# Altium schematic symbol library kmilo17pet-NSC_MiscPower.SchLib: 1552 symbols (part 38 of 43)
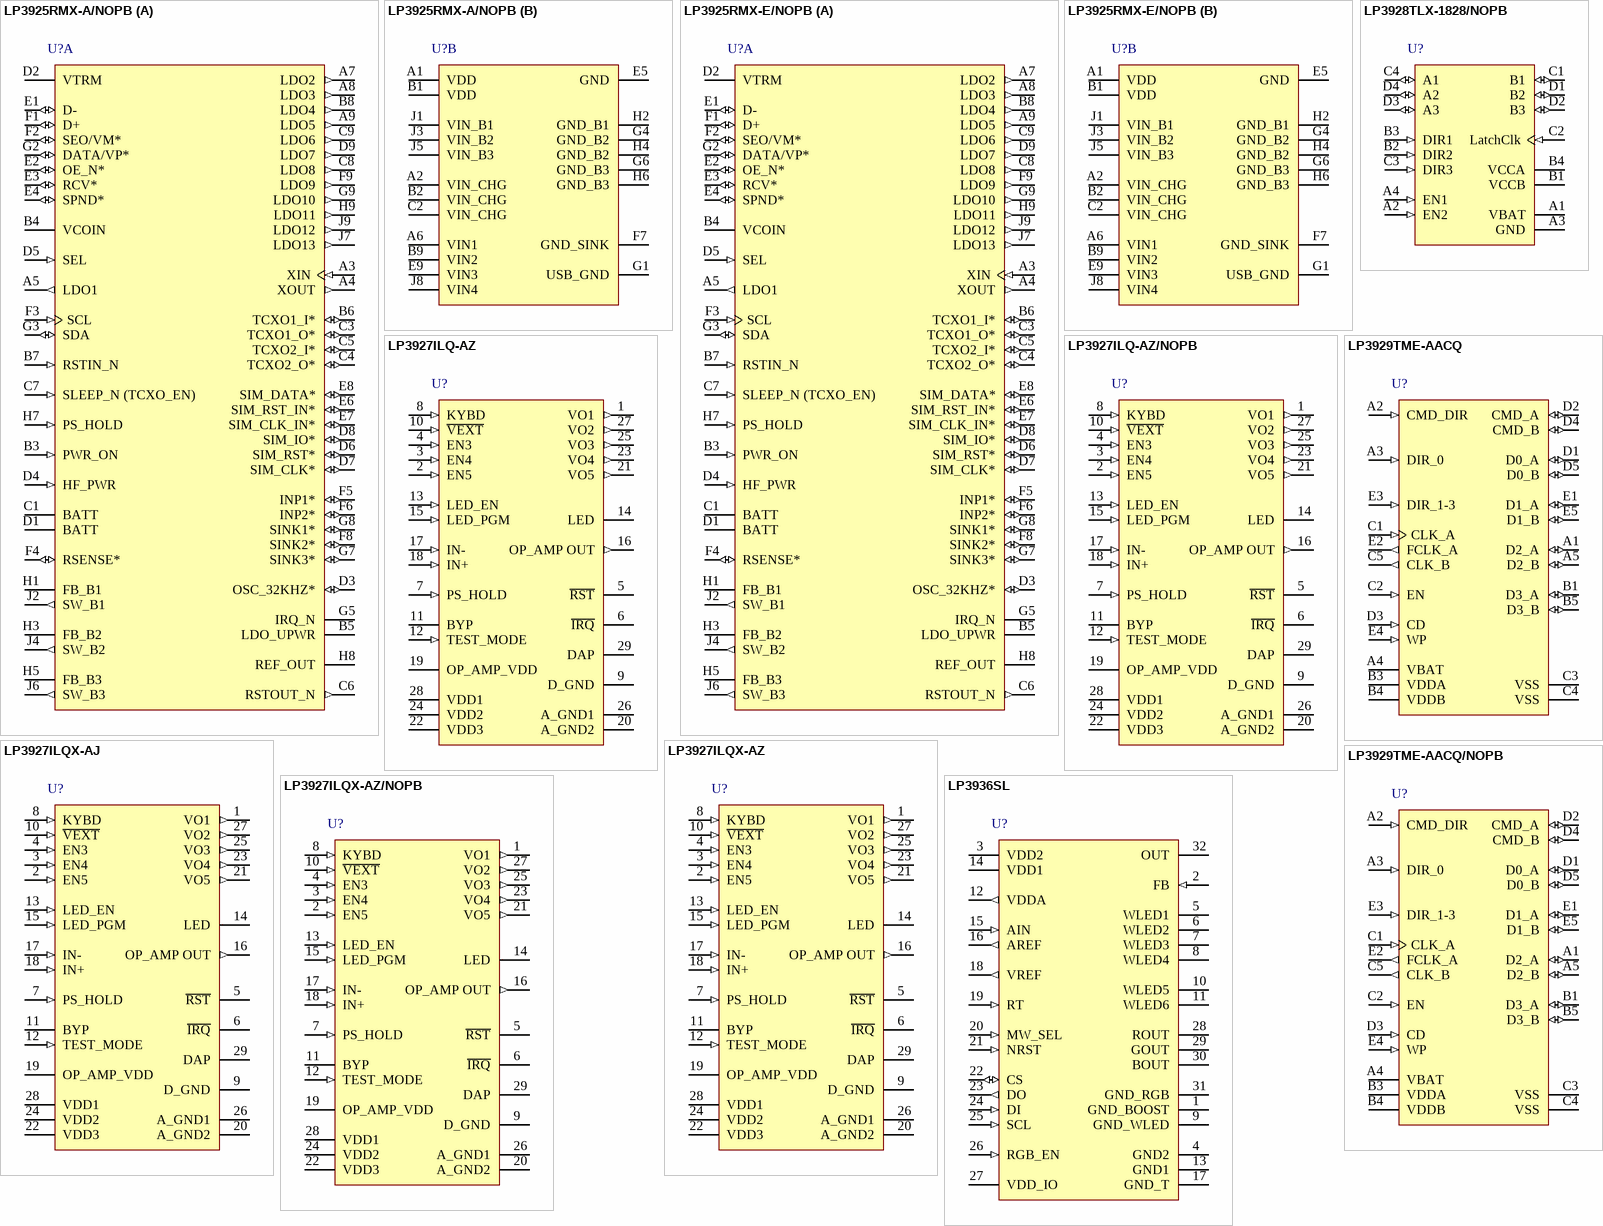
[diagram p94: symbols LP3925RMX-A/NOPB to LP3936SL]

## LP3927ILQ-AZ
designator U?
Cellular/PCS System Power Management IC, 28-pin LLP; PartNumber: LP3927ILQ-AZ; Manufacturer: National Semiconductor; PackageTopMarking: NS*UZXYTTE#*3927-AZ; PowerWise: N; CompType: MiscPower; High-Reliability: Y; DatasheetVersion: Dec-2005; PackageVersion: revB, Jul-2001; PackageReference: LQA28A; PackageDescription: LLP, Plastic, Quad, 5 x 5 x 0.75mm Body, 28 Lead, 0.5mm Pitch; RoHS: N; PinCount: 28; Code_JEDEC: MO-220-WHHD-1; ComponentLink1Description: Manufacturer URL; ComponentLink1URL: http://www.national.com/; ComponentLink2Description: LP3927 Datasheet; ComponentLink2URL: http://www.national.com/ds/LP/LP3927.pdf; ComponentLink3Description: LP3927 Web Page; ComponentLink3URL: http://www.national.com/pf/LP/LP3927.html; ComponentLink4Description: LQA28A Package Page; ComponentLink4URL: http://www.national.com/packaging/folders/lqa28a.html
footprint LQA28A (PQFN, 28-Leads, Body 5x5mm, Pitch 0.5mm, Thermal Pad 3.3x3.3mm, NSC Recommended)
pins: 1 VO1 (out), 2 EN5 (in), 3 EN4 (in), 4 EN3 (in), 5 ~{RST} (oc), 6 ~{IRQ} (oc), 7 PS_HOLD (in), 8 KYBD (in), 9 D_GND (power), 10 ~{VEXT} (in), 11 BYP, 12 TEST_MODE (in), 13 LED_EN (in), 14 LED (oc), 15 LED_PGM (in), 16 OP_AMP OUT (out), 17 IN- (in), 18 IN+ (in), 19 OP_AMP_VDD (power), 20 A_GND2 (power), 21 VO5 (out), 22 VDD3 (power), 23 VO4 (out), 24 VDD2 (power), 25 VO3 (out), 26 A_GND1 (power), 27 VO2 (out), 28 VDD1 (power), 29 DAP (power)

## LP3927ILQ-AZ/NOPB
designator U?
Cellular/PCS System Power Management IC, 28-pin LLP, Pb-Free; PartNumber: LP3927ILQ-AZ/NOPB; Manufacturer: National Semiconductor; PackageTopMarking: NS*UZXYTTE#*3927-AZ; PowerWise: N; CompType: MiscPower; High-Reliability: Y; DatasheetVersion: Dec-2005; PackageVersion: revB, Jul-2001; PackageReference: LQA28A; PackageDescription: LLP, Plastic, Quad, 5 x 5 x 0.75mm Body, 28 Lead, 0.5mm Pitch; RoHS: Y; PinCount: 28; Code_JEDEC: MO-220-WHHD-1; ComponentLink1Description: Manufacturer URL; ComponentLink1URL: http://www.national.com/; ComponentLink2Description: LP3927 Datasheet; ComponentLink2URL: http://www.national.com/ds/LP/LP3927.pdf; ComponentLink3Description: LP3927 Web Page; ComponentLink3URL: http://www.national.com/pf/LP/LP3927.html; ComponentLink4Description: LQA28A Package Page; ComponentLink4URL: http://www.national.com/packaging/folders/lqa28a.html
footprint LQA28A (PQFN, 28-Leads, Body 5x5mm, Pitch 0.5mm, Thermal Pad 3.3x3.3mm, NSC Recommended)
pins: 1 VO1 (out), 2 EN5 (in), 3 EN4 (in), 4 EN3 (in), 5 ~{RST} (oc), 6 ~{IRQ} (oc), 7 PS_HOLD (in), 8 KYBD (in), 9 D_GND (power), 10 ~{VEXT} (in), 11 BYP, 12 TEST_MODE (in), 13 LED_EN (in), 14 LED (oc), 15 LED_PGM (in), 16 OP_AMP OUT (out), 17 IN- (in), 18 IN+ (in), 19 OP_AMP_VDD (power), 20 A_GND2 (power), 21 VO5 (out), 22 VDD3 (power), 23 VO4 (out), 24 VDD2 (power), 25 VO3 (out), 26 A_GND1 (power), 27 VO2 (out), 28 VDD1 (power), 29 DAP (power)

## LP3927ILQX-AJ
designator U?
Cellular/PCS System Power Management IC, 28-pin LLP; PartNumber: LP3927ILQX-AJ; Manufacturer: National Semiconductor; PackageTopMarking: NS*UZXYTTE#*3927-AJ; PowerWise: N; CompType: MiscPower; High-Reliability: Y; DatasheetVersion: Dec-2005; PackageVersion: revB, Jul-2001; PackageReference: LQA28A; PackageDescription: LLP, Plastic, Quad, 5 x 5 x 0.75mm Body, 28 Lead, 0.5mm Pitch; RoHS: N; PinCount: 28; Code_JEDEC: MO-220-WHHD-1; ComponentLink1Description: Manufacturer URL; ComponentLink1URL: http://www.national.com/; ComponentLink2Description: LP3927 Datasheet; ComponentLink2URL: http://www.national.com/ds/LP/LP3927.pdf; ComponentLink3Description: LP3927 Web Page; ComponentLink3URL: http://www.national.com/pf/LP/LP3927.html; ComponentLink4Description: LQA28A Package Page; ComponentLink4URL: http://www.national.com/packaging/folders/lqa28a.html
footprint LQA28A (PQFN, 28-Leads, Body 5x5mm, Pitch 0.5mm, Thermal Pad 3.3x3.3mm, NSC Recommended)
pins: 1 VO1 (out), 2 EN5 (in), 3 EN4 (in), 4 EN3 (in), 5 ~{RST} (oc), 6 ~{IRQ} (oc), 7 PS_HOLD (in), 8 KYBD (in), 9 D_GND (power), 10 ~{VEXT} (in), 11 BYP, 12 TEST_MODE (in), 13 LED_EN (in), 14 LED (oc), 15 LED_PGM (in), 16 OP_AMP OUT (out), 17 IN- (in), 18 IN+ (in), 19 OP_AMP_VDD (power), 20 A_GND2 (power), 21 VO5 (out), 22 VDD3 (power), 23 VO4 (out), 24 VDD2 (power), 25 VO3 (out), 26 A_GND1 (power), 27 VO2 (out), 28 VDD1 (power), 29 DAP (power)

## LP3927ILQX-AZ
designator U?
Cellular/PCS System Power Management IC, 28-pin LLP; PartNumber: LP3927ILQX-AZ; Manufacturer: National Semiconductor; PackageTopMarking: NS*UZXYTTE#*3927-AZ; PowerWise: N; CompType: MiscPower; High-Reliability: Y; DatasheetVersion: Dec-2005; PackageVersion: revB, Jul-2001; PackageReference: LQA28A; PackageDescription: LLP, Plastic, Quad, 5 x 5 x 0.75mm Body, 28 Lead, 0.5mm Pitch; RoHS: N; PinCount: 28; Code_JEDEC: MO-220-WHHD-1; ComponentLink1Description: Manufacturer URL; ComponentLink1URL: http://www.national.com/; ComponentLink2Description: LP3927 Datasheet; ComponentLink2URL: http://www.national.com/ds/LP/LP3927.pdf; ComponentLink3Description: LP3927 Web Page; ComponentLink3URL: http://www.national.com/pf/LP/LP3927.html; ComponentLink4Description: LQA28A Package Page; ComponentLink4URL: http://www.national.com/packaging/folders/lqa28a.html
footprint LQA28A (PQFN, 28-Leads, Body 5x5mm, Pitch 0.5mm, Thermal Pad 3.3x3.3mm, NSC Recommended)
pins: 1 VO1 (out), 2 EN5 (in), 3 EN4 (in), 4 EN3 (in), 5 ~{RST} (oc), 6 ~{IRQ} (oc), 7 PS_HOLD (in), 8 KYBD (in), 9 D_GND (power), 10 ~{VEXT} (in), 11 BYP, 12 TEST_MODE (in), 13 LED_EN (in), 14 LED (oc), 15 LED_PGM (in), 16 OP_AMP OUT (out), 17 IN- (in), 18 IN+ (in), 19 OP_AMP_VDD (power), 20 A_GND2 (power), 21 VO5 (out), 22 VDD3 (power), 23 VO4 (out), 24 VDD2 (power), 25 VO3 (out), 26 A_GND1 (power), 27 VO2 (out), 28 VDD1 (power), 29 DAP (power)

## LP3927ILQX-AZ/NOPB
designator U?
Cellular/PCS System Power Management IC, 28-pin LLP, Pb-Free; PartNumber: LP3927ILQX-AZ/NOPB; Manufacturer: National Semiconductor; PackageTopMarking: NS*UZXYTTE#*3927-AZ; PowerWise: N; CompType: MiscPower; High-Reliability: Y; DatasheetVersion: Dec-2005; PackageVersion: revB, Jul-2001; PackageReference: LQA28A; PackageDescription: LLP, Plastic, Quad, 5 x 5 x 0.75mm Body, 28 Lead, 0.5mm Pitch; RoHS: Y; PinCount: 28; Code_JEDEC: MO-220-WHHD-1; ComponentLink1Description: Manufacturer URL; ComponentLink1URL: http://www.national.com/; ComponentLink2Description: LP3927 Datasheet; ComponentLink2URL: http://www.national.com/ds/LP/LP3927.pdf; ComponentLink3Description: LP3927 Web Page; ComponentLink3URL: http://www.national.com/pf/LP/LP3927.html; ComponentLink4Description: LQA28A Package Page; ComponentLink4URL: http://www.national.com/packaging/folders/lqa28a.html
footprint LQA28A (PQFN, 28-Leads, Body 5x5mm, Pitch 0.5mm, Thermal Pad 3.3x3.3mm, NSC Recommended)
pins: 1 VO1 (out), 2 EN5 (in), 3 EN4 (in), 4 EN3 (in), 5 ~{RST} (oc), 6 ~{IRQ} (oc), 7 PS_HOLD (in), 8 KYBD (in), 9 D_GND (power), 10 ~{VEXT} (in), 11 BYP, 12 TEST_MODE (in), 13 LED_EN (in), 14 LED (oc), 15 LED_PGM (in), 16 OP_AMP OUT (out), 17 IN- (in), 18 IN+ (in), 19 OP_AMP_VDD (power), 20 A_GND2 (power), 21 VO5 (out), 22 VDD3 (power), 23 VO4 (out), 24 VDD2 (power), 25 VO3 (out), 26 A_GND1 (power), 27 VO2 (out), 28 VDD1 (power), 29 DAP (power)

## LP3928TLX-1828/NOPB
designator U?
High Speed Bi-Directional Level Shifter and Ultra Low-Dropout CMOS Voltage Regulator, 16-pin Micro SMD, Pb-Free; PartNumber: LP3928TLX-1828/NOPB; Manufacturer: National Semiconductor; PackageTopMarking: XYTT*I L8B; PowerWise: N; CompType: MiscPower; High-Reliability: Y; DatasheetVersion: Oct-2002; PackageVersion: revC, Jan-2004; PackageReference: TLA16AAA; PackageDescription: Thin Micro SMD, 36-Bump (Large), 0.5 mm Pitch; RoHS: Y; PinCount: 16; Code_JEDEC: MO-211-DF; ComponentLink1Description: Manufacturer URL; ComponentLink1URL: http://www.national.com/; ComponentLink2Description: LP3928 Datasheet; ComponentLink2URL: http://www.national.com/ds/LP/LP3928.pdf; ComponentLink3Description: LP3928 Web Page; ComponentLink3URL: http://www.national.com/pf/LP/LP3928.html; ComponentLink4Description: TLA16AAA Package Page; ComponentLink4URL: http://www.national.com/packaging/folders/tla16aaa.html
footprint TLA16AAA (Micro SMD, 16-Leads, Body 2.0x2.0mm, Pitch 0.5mm, NSC Recommended)
pins: A1 VBAT (power), A2 EN2 (in), A3 GND (power), A4 EN1 (in), B1 VCCB (power), B2 DIR2 (in), B3 DIR1 (in), B4 VCCA (power), C1 B1 (io), C2 LatchClk (in), C3 DIR3 (in), C4 A1 (io), D1 B2 (io), D2 B3 (io), D3 A3 (io), D4 A2 (io)

## LP3929TME-AACQ
designator U?
High Speed Bi-Directional Level Shifter and Ultra Low-Dropout CMOS Voltage Regulator and Line Protection, 24-pin Micro SMD; PartNumber: LP3929TME-AACQ; Manufacturer: National Semiconductor; PackageTopMarking: XYTT*I D57B; PowerWise: N; CompType: MiscPower; High-Reliability: Y; DatasheetVersion: Dec-2007; PackageVersion: revA, 2007; PackageReference: TME24AAA; PackageDescription: Thin Micro SMD, Depopulated, 24 Bump, 0.4mm Pitch; RoHS: Y; PinCount: 24; ComponentLink1Description: Manufacturer URL; ComponentLink1URL: http://www.national.com/; ComponentLink2Description: LP3929 Datasheet; ComponentLink2URL: http://www.national.com/ds/LP/LP3929.pdf; ComponentLink3Description: LP3929 Web Page; ComponentLink3URL: http://www.national.com/pf/LP/LP3929.html; ComponentLink4Description: TME24AAA Package Page; ComponentLink4URL: http://www.national.com/packaging/folders/tme24aaa.html
footprint TME24AAA (Micro SMD, 24-Leads, Body 2.02x2.02mm, Pitch 0.4mm, NSC Recommended)
pins: A1 D2_A (io), A2 CMD_DIR (in), A3 DIR_0 (in), A4 VBAT (power), A5 D2_B (io), B1 D3_A (io), B3 VDDA (power), B4 VDDB (power), B5 D3_B (io), C1 CLK_A (in), C2 EN (in), C3 VSS (power), C4 VSS (power), C5 CLK_B (out), D1 D0_A (io), D2 CMD_A (io), D3 CD (in), D4 CMD_B (io), D5 D0_B (io), E1 D1_A (io), E2 FCLK_A (out), E3 DIR_1-3 (in), E4 WP (in), E5 D1_B (io)

## LP3929TME-AACQ/NOPB
designator U?
High Speed Bi-Directional Level Shifter and Ultra Low-Dropout CMOS Voltage Regulator and Line Protection, 24-pin Micro SMD, Pb-Free; PartNumber: LP3929TME-AACQ/NOPB; Manufacturer: National Semiconductor; PackageTopMarking: XYTT*I D57B; PowerWise: N; CompType: MiscPower; High-Reliability: Y; DatasheetVersion: Dec-2007; PackageVersion: revA, 2007; PackageReference: TME24AAA; PackageDescription: Thin Micro SMD, Depopulated, 24 Bump, 0.4mm Pitch; RoHS: Y; PinCount: 24; ComponentLink1Description: Manufacturer URL; ComponentLink1URL: http://www.national.com/; ComponentLink2Description: LP3929 Datasheet; ComponentLink2URL: http://www.national.com/ds/LP/LP3929.pdf; ComponentLink3Description: LP3929 Web Page; ComponentLink3URL: http://www.national.com/pf/LP/LP3929.html; ComponentLink4Description: TME24AAA Package Page; ComponentLink4URL: http://www.national.com/packaging/folders/tme24aaa.html
footprint TME24AAA (Micro SMD, 24-Leads, Body 2.02x2.02mm, Pitch 0.4mm, NSC Recommended)
pins: A1 D2_A (io), A2 CMD_DIR (in), A3 DIR_0 (in), A4 VBAT (power), A5 D2_B (io), B1 D3_A (io), B3 VDDA (power), B4 VDDB (power), B5 D3_B (io), C1 CLK_A (in), C2 EN (in), C3 VSS (power), C4 VSS (power), C5 CLK_B (out), D1 D0_A (io), D2 CMD_A (io), D3 CD (in), D4 CMD_B (io), D5 D0_B (io), E1 D1_A (io), E2 FCLK_A (out), E3 DIR_1-3 (in), E4 WP (in), E5 D1_B (io)

## LP3936SL
designator U?
Lighting Management System for Six White LEDs and One RGB or FLASH LED, 32-pin Laminate TCSP; PartNumber: LP3936SL; Manufacturer: National Semiconductor; PackageTopMarking: NSUZXYTTE#*LP3936SL; PowerWise: Y; CompType: MiscPower; DatasheetVersion: Jun-2005; PackageVersion: revA, Aug-2001; PackageReference: SLD32A; PackageDescription: Thin CSP, Plastic, Laminated, 4.5 x 5.5 x 0.8mm Body, 32 Lead, 0.5mm Pitch; RoHS: N; PinCount: 32; High-Reliability: Y; Code_JEDEC: MO-208-GEEA; ComponentLink1Description: Manufacturer URL; ComponentLink1URL: http://www.national.com/; ComponentLink2Description: LP3936 Datasheet; ComponentLink2URL: http://www.national.com/ds/LP/LP3936.pdf; ComponentLink3Description: LP3936 Web Page; ComponentLink3URL: http://www.national.com/pf/LP/LP3936.html; ComponentLink4Description: SLD32A Package Page; ComponentLink4URL: http://www.national.com/packaging/folders/sld32a.html
footprint SLD32A (PQFN, 32-Leads (9x7 pads), Body 4.5x5.5mm, Pitch 0.5mm, NSC Recommended)
pins: 1 GND_BOOST (power), 2 FB (in), 3 VDD2 (power), 4 GND2 (power), 5 WLED1 (oc), 6 WLED2 (oc), 7 WLED3 (oc), 8 WLED4 (oc), 9 GND_WLED (power), 10 WLED5 (oc), 11 WLED6 (oc), 12 VDDA (out), 13 GND1 (power), 14 VDD1 (power), 15 AIN (in), 16 AREF (out), 17 GND_T (power), 18 VREF (out), 19 RT (in), 20 MW_SEL (in), 21 NRST (in), 22 CS (io), 23 DO (out), 24 DI (in), 25 SCL (in), 26 RGB_EN (in), 27 VDD_IO (power), 28 ROUT (oc), 29 GOUT (oc), 30 BOUT (oc), 31 GND_RGB (power), 32 OUT (oc)

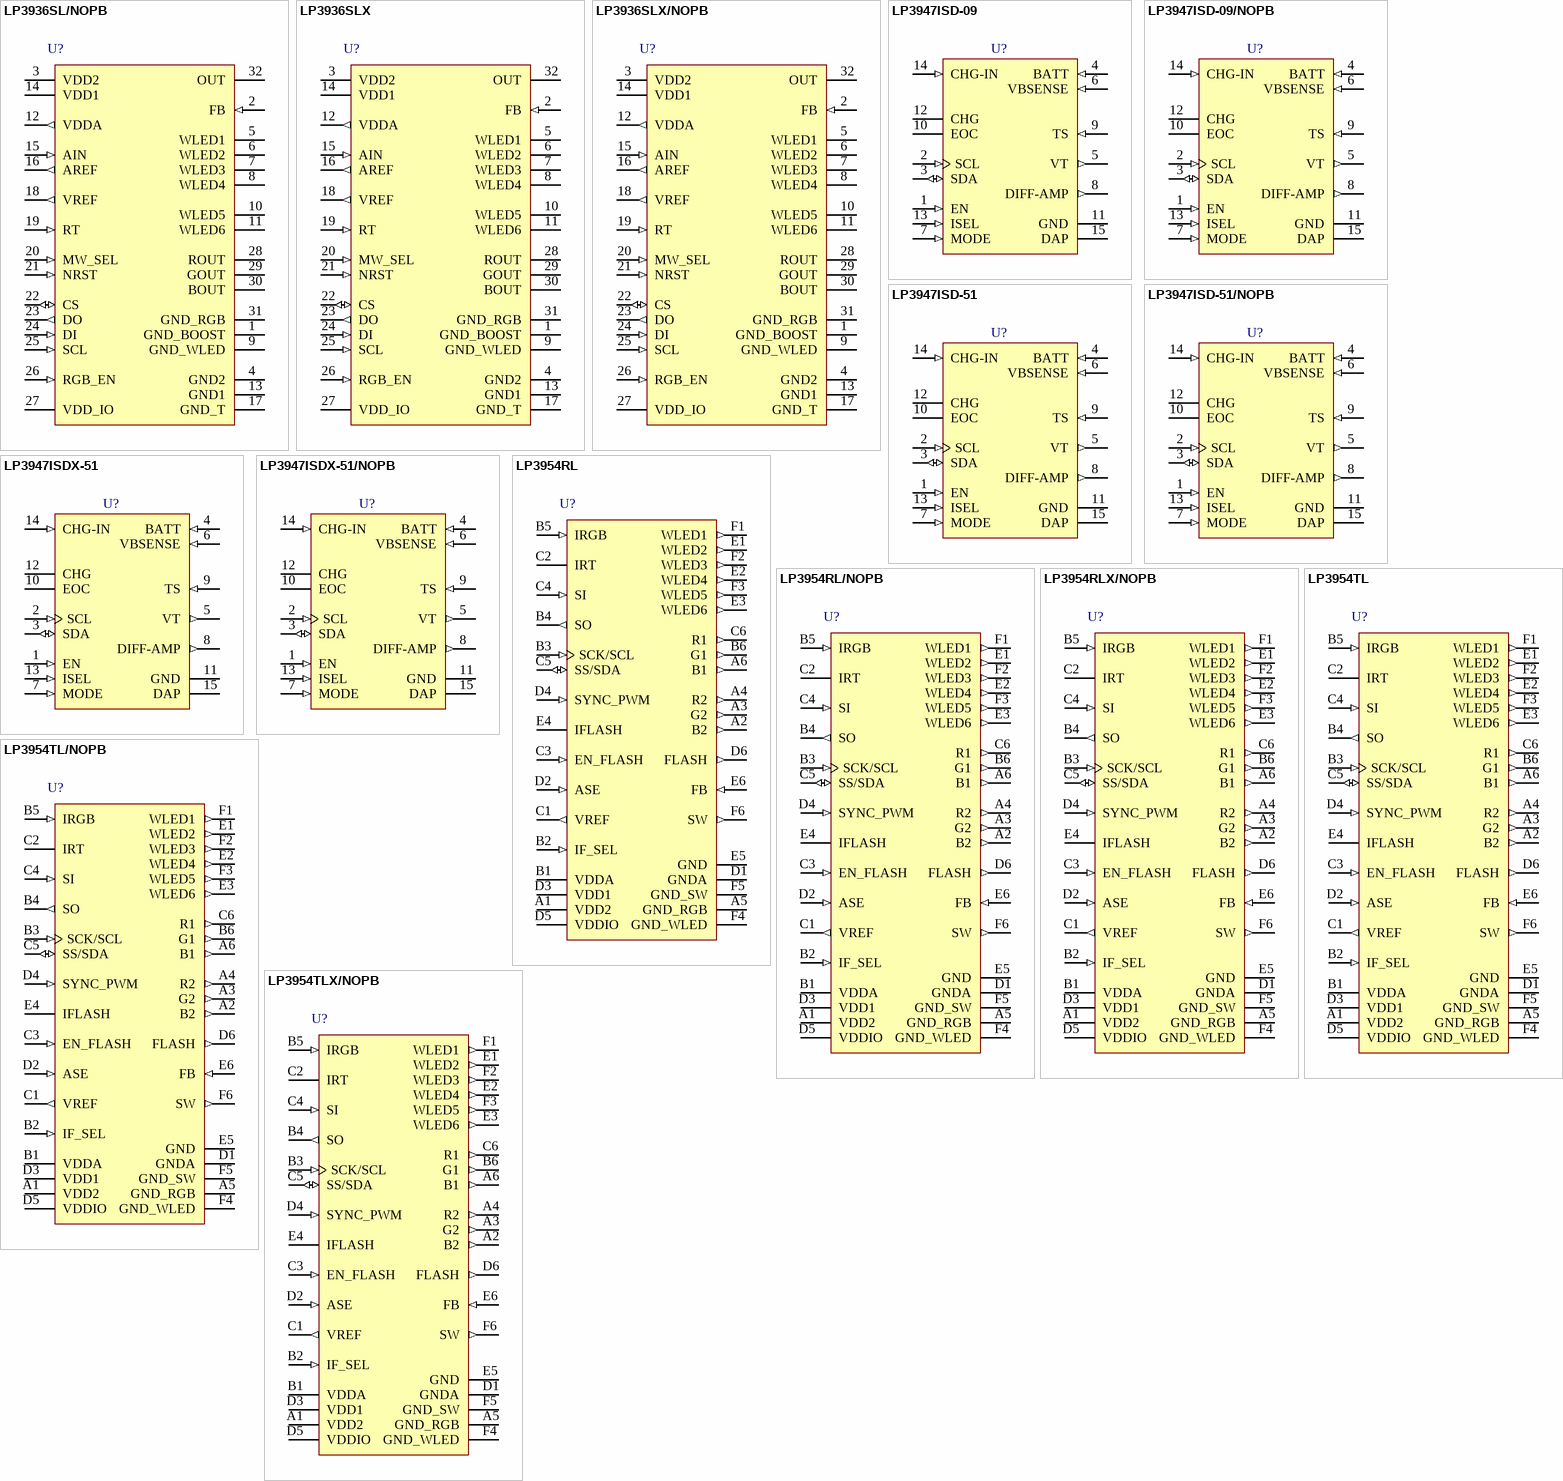
[diagram p45: symbols LP3936SL/NOPB to LP3954TLX/NOPB]

## LP3936SL/NOPB
designator U?
Lighting Management System for Six White LEDs and One RGB or FLASH LED, 32-pin Laminate TCSP, Pb-Free; PartNumber: LP3936SL/NOPB; Manufacturer: National Semiconductor; PackageTopMarking: NSUZXYTTE#*LP3936SL; PowerWise: Y; CompType: MiscPower; DatasheetVersion: Jun-2005; PackageVersion: revA, Aug-2001; PackageReference: SLD32A; PackageDescription: Thin CSP, Plastic, Laminated, 4.5 x 5.5 x 0.8mm Body, 32 Lead, 0.5mm Pitch; RoHS: Y; PinCount: 32; High-Reliability: Y; Code_JEDEC: MO-208-GEEA; ComponentLink1Description: Manufacturer URL; ComponentLink1URL: http://www.national.com/; ComponentLink2Description: LP3936 Datasheet; ComponentLink2URL: http://www.national.com/ds/LP/LP3936.pdf; ComponentLink3Description: LP3936 Web Page; ComponentLink3URL: http://www.national.com/pf/LP/LP3936.html; ComponentLink4Description: SLD32A Package Page; ComponentLink4URL: http://www.national.com/packaging/folders/sld32a.html
footprint SLD32A (PQFN, 32-Leads (9x7 pads), Body 4.5x5.5mm, Pitch 0.5mm, NSC Recommended)
pins: 1 GND_BOOST (power), 2 FB (in), 3 VDD2 (power), 4 GND2 (power), 5 WLED1 (oc), 6 WLED2 (oc), 7 WLED3 (oc), 8 WLED4 (oc), 9 GND_WLED (power), 10 WLED5 (oc), 11 WLED6 (oc), 12 VDDA (out), 13 GND1 (power), 14 VDD1 (power), 15 AIN (in), 16 AREF (out), 17 GND_T (power), 18 VREF (out), 19 RT (in), 20 MW_SEL (in), 21 NRST (in), 22 CS (io), 23 DO (out), 24 DI (in), 25 SCL (in), 26 RGB_EN (in), 27 VDD_IO (power), 28 ROUT (oc), 29 GOUT (oc), 30 BOUT (oc), 31 GND_RGB (power), 32 OUT (oc)

## LP3936SLX
designator U?
Lighting Management System for Six White LEDs and One RGB or FLASH LED, 32-pin Laminate TCSP; PartNumber: LP3936SLX; Manufacturer: National Semiconductor; PackageTopMarking: NSUZXYTTE#*LP3936SL; PowerWise: Y; CompType: MiscPower; DatasheetVersion: Jun-2005; PackageVersion: revA, Aug-2001; PackageReference: SLD32A; PackageDescription: Thin CSP, Plastic, Laminated, 4.5 x 5.5 x 0.8mm Body, 32 Lead, 0.5mm Pitch; RoHS: N; PinCount: 32; High-Reliability: Y; Code_JEDEC: MO-208-GEEA; ComponentLink1Description: Manufacturer URL; ComponentLink1URL: http://www.national.com/; ComponentLink2Description: LP3936 Datasheet; ComponentLink2URL: http://www.national.com/ds/LP/LP3936.pdf; ComponentLink3Description: LP3936 Web Page; ComponentLink3URL: http://www.national.com/pf/LP/LP3936.html; ComponentLink4Description: SLD32A Package Page; ComponentLink4URL: http://www.national.com/packaging/folders/sld32a.html
footprint SLD32A (PQFN, 32-Leads (9x7 pads), Body 4.5x5.5mm, Pitch 0.5mm, NSC Recommended)
pins: 1 GND_BOOST (power), 2 FB (in), 3 VDD2 (power), 4 GND2 (power), 5 WLED1 (oc), 6 WLED2 (oc), 7 WLED3 (oc), 8 WLED4 (oc), 9 GND_WLED (power), 10 WLED5 (oc), 11 WLED6 (oc), 12 VDDA (out), 13 GND1 (power), 14 VDD1 (power), 15 AIN (in), 16 AREF (out), 17 GND_T (power), 18 VREF (out), 19 RT (in), 20 MW_SEL (in), 21 NRST (in), 22 CS (io), 23 DO (out), 24 DI (in), 25 SCL (in), 26 RGB_EN (in), 27 VDD_IO (power), 28 ROUT (oc), 29 GOUT (oc), 30 BOUT (oc), 31 GND_RGB (power), 32 OUT (oc)

## LP3936SLX/NOPB
designator U?
Lighting Management System for Six White LEDs and One RGB or FLASH LED, 32-pin Laminate TCSP, Pb-Free; PartNumber: LP3936SLX/NOPB; Manufacturer: National Semiconductor; PackageTopMarking: NSUZXYTTE#*LP3936SL; PowerWise: Y; CompType: MiscPower; DatasheetVersion: Jun-2005; PackageVersion: revA, Aug-2001; PackageReference: SLD32A; PackageDescription: Thin CSP, Plastic, Laminated, 4.5 x 5.5 x 0.8mm Body, 32 Lead, 0.5mm Pitch; RoHS: Y; PinCount: 32; High-Reliability: Y; Code_JEDEC: MO-208-GEEA; ComponentLink1Description: Manufacturer URL; ComponentLink1URL: http://www.national.com/; ComponentLink2Description: LP3936 Datasheet; ComponentLink2URL: http://www.national.com/ds/LP/LP3936.pdf; ComponentLink3Description: LP3936 Web Page; ComponentLink3URL: http://www.national.com/pf/LP/LP3936.html; ComponentLink4Description: SLD32A Package Page; ComponentLink4URL: http://www.national.com/packaging/folders/sld32a.html
footprint SLD32A (PQFN, 32-Leads (9x7 pads), Body 4.5x5.5mm, Pitch 0.5mm, NSC Recommended)
pins: 1 GND_BOOST (power), 2 FB (in), 3 VDD2 (power), 4 GND2 (power), 5 WLED1 (oc), 6 WLED2 (oc), 7 WLED3 (oc), 8 WLED4 (oc), 9 GND_WLED (power), 10 WLED5 (oc), 11 WLED6 (oc), 12 VDDA (out), 13 GND1 (power), 14 VDD1 (power), 15 AIN (in), 16 AREF (out), 17 GND_T (power), 18 VREF (out), 19 RT (in), 20 MW_SEL (in), 21 NRST (in), 22 CS (io), 23 DO (out), 24 DI (in), 25 SCL (in), 26 RGB_EN (in), 27 VDD_IO (power), 28 ROUT (oc), 29 GOUT (oc), 30 BOUT (oc), 31 GND_RGB (power), 32 OUT (oc)

## LP3947ISD-09
designator U?
USB/AC Adaptor, Single Cell Li-Ion Battery Charger IC, 14-pin LLP; PartNumber: LP3947ISD-09; Manufacturer: National Semiconductor; PackageTopMarking: NS*UZXYTT*L00061B; PowerWise: Y; CompType: MiscPower; DatasheetVersion: Jul-2006; PackageVersion: revA, Jul-2004; PackageReference: SDA14B; PackageDescription: LLP, Plastic, Dual, 4 x 4 x 0.8mm Body, 14 Lead, 0.5mm Pitch, No Pullback; RoHS: N; PinCount: 14; High-Reliability: Y; ComponentLink1Description: Manufacturer URL; ComponentLink1URL: http://www.national.com/; ComponentLink2Description: LP3947 Datasheet; ComponentLink2URL: http://www.national.com/ds/LP/LP3947.pdf; ComponentLink3Description: LP3947 Web Page; ComponentLink3URL: http://www.national.com/pf/LP/LP3947.html; ComponentLink4Description: SDA14B Package Page; ComponentLink4URL: http://www.national.com/packaging/folders/sda14b.html
footprint SDA14B (SON, 14-Leads, Body 4x4mm, Pitch 0.5mm, NSC Recommended)
pins: 1 EN (in), 2 SCL (in), 3 SDA (io), 4 BATT (in), 5 VT (out), 6 VBSENSE (in), 7 MODE (in), 8 DIFF-AMP (out), 9 TS (in), 10 EOC (oc), 11 GND (power), 12 CHG (oc), 13 ISEL (in), 14 CHG-IN (in), 15 DAP (power)

## LP3947ISD-09/NOPB
designator U?
USB/AC Adaptor, Single Cell Li-Ion Battery Charger IC, 14-pin LLP, Pb-Free; PartNumber: LP3947ISD-09/NOPB; Manufacturer: National Semiconductor; PackageTopMarking: NS*UZXYTT*L00061B; PowerWise: Y; CompType: MiscPower; DatasheetVersion: Jul-2006; PackageVersion: revA, Jul-2004; PackageReference: SDA14B; PackageDescription: LLP, Plastic, Dual, 4 x 4 x 0.8mm Body, 14 Lead, 0.5mm Pitch, No Pullback; RoHS: Y; PinCount: 14; High-Reliability: Y; ComponentLink1Description: Manufacturer URL; ComponentLink1URL: http://www.national.com/; ComponentLink2Description: LP3947 Datasheet; ComponentLink2URL: http://www.national.com/ds/LP/LP3947.pdf; ComponentLink3Description: LP3947 Web Page; ComponentLink3URL: http://www.national.com/pf/LP/LP3947.html; ComponentLink4Description: SDA14B Package Page; ComponentLink4URL: http://www.national.com/packaging/folders/sda14b.html
footprint SDA14B (SON, 14-Leads, Body 4x4mm, Pitch 0.5mm, NSC Recommended)
pins: 1 EN (in), 2 SCL (in), 3 SDA (io), 4 BATT (in), 5 VT (out), 6 VBSENSE (in), 7 MODE (in), 8 DIFF-AMP (out), 9 TS (in), 10 EOC (oc), 11 GND (power), 12 CHG (oc), 13 ISEL (in), 14 CHG-IN (in), 15 DAP (power)

## LP3947ISD-51
designator U?
USB/AC Adaptor, Single Cell Li-Ion Battery Charger IC, 14-pin LLP; PartNumber: LP3947ISD-51; Manufacturer: National Semiconductor; PackageTopMarking: NS*UZXYTT*L00062B; PowerWise: Y; CompType: MiscPower; DatasheetVersion: Jul-2006; PackageVersion: revA, Jul-2004; PackageReference: SDA14B; PackageDescription: LLP, Plastic, Dual, 4 x 4 x 0.8mm Body, 14 Lead, 0.5mm Pitch, No Pullback; RoHS: N; PinCount: 14; High-Reliability: Y; ComponentLink1Description: Manufacturer URL; ComponentLink1URL: http://www.national.com/; ComponentLink2Description: LP3947 Datasheet; ComponentLink2URL: http://www.national.com/ds/LP/LP3947.pdf; ComponentLink3Description: LP3947 Web Page; ComponentLink3URL: http://www.national.com/pf/LP/LP3947.html; ComponentLink4Description: SDA14B Package Page; ComponentLink4URL: http://www.national.com/packaging/folders/sda14b.html
footprint SDA14B (SON, 14-Leads, Body 4x4mm, Pitch 0.5mm, NSC Recommended)
pins: 1 EN (in), 2 SCL (in), 3 SDA (io), 4 BATT (in), 5 VT (out), 6 VBSENSE (in), 7 MODE (in), 8 DIFF-AMP (out), 9 TS (in), 10 EOC (oc), 11 GND (power), 12 CHG (oc), 13 ISEL (in), 14 CHG-IN (in), 15 DAP (power)

## LP3947ISD-51/NOPB
designator U?
USB/AC Adaptor, Single Cell Li-Ion Battery Charger IC, 14-pin LLP, Pb-Free; PartNumber: LP3947ISD-51/NOPB; Manufacturer: National Semiconductor; PackageTopMarking: NS*UZXYTT*L00062B; PowerWise: Y; CompType: MiscPower; DatasheetVersion: Jul-2006; PackageVersion: revA, Jul-2004; PackageReference: SDA14B; PackageDescription: LLP, Plastic, Dual, 4 x 4 x 0.8mm Body, 14 Lead, 0.5mm Pitch, No Pullback; RoHS: Y; PinCount: 14; High-Reliability: Y; ComponentLink1Description: Manufacturer URL; ComponentLink1URL: http://www.national.com/; ComponentLink2Description: LP3947 Datasheet; ComponentLink2URL: http://www.national.com/ds/LP/LP3947.pdf; ComponentLink3Description: LP3947 Web Page; ComponentLink3URL: http://www.national.com/pf/LP/LP3947.html; ComponentLink4Description: SDA14B Package Page; ComponentLink4URL: http://www.national.com/packaging/folders/sda14b.html
footprint SDA14B (SON, 14-Leads, Body 4x4mm, Pitch 0.5mm, NSC Recommended)
pins: 1 EN (in), 2 SCL (in), 3 SDA (io), 4 BATT (in), 5 VT (out), 6 VBSENSE (in), 7 MODE (in), 8 DIFF-AMP (out), 9 TS (in), 10 EOC (oc), 11 GND (power), 12 CHG (oc), 13 ISEL (in), 14 CHG-IN (in), 15 DAP (power)

## LP3947ISDX-51
designator U?
USB/AC Adaptor, Single Cell Li-Ion Battery Charger IC, 14-pin LLP; PartNumber: LP3947ISDX-51; Manufacturer: National Semiconductor; PackageTopMarking: NS*UZXYTT*L00062B; PowerWise: Y; CompType: MiscPower; DatasheetVersion: Jul-2006; PackageVersion: revA, Jul-2004; PackageReference: SDA14B; PackageDescription: LLP, Plastic, Dual, 4 x 4 x 0.8mm Body, 14 Lead, 0.5mm Pitch, No Pullback; RoHS: N; PinCount: 14; High-Reliability: Y; ComponentLink1Description: Manufacturer URL; ComponentLink1URL: http://www.national.com/; ComponentLink2Description: LP3947 Datasheet; ComponentLink2URL: http://www.national.com/ds/LP/LP3947.pdf; ComponentLink3Description: LP3947 Web Page; ComponentLink3URL: http://www.national.com/pf/LP/LP3947.html; ComponentLink4Description: SDA14B Package Page; ComponentLink4URL: http://www.national.com/packaging/folders/sda14b.html
footprint SDA14B (SON, 14-Leads, Body 4x4mm, Pitch 0.5mm, NSC Recommended)
pins: 1 EN (in), 2 SCL (in), 3 SDA (io), 4 BATT (in), 5 VT (out), 6 VBSENSE (in), 7 MODE (in), 8 DIFF-AMP (out), 9 TS (in), 10 EOC (oc), 11 GND (power), 12 CHG (oc), 13 ISEL (in), 14 CHG-IN (in), 15 DAP (power)

## LP3947ISDX-51/NOPB
designator U?
USB/AC Adaptor, Single Cell Li-Ion Battery Charger IC, 14-pin LLP, Pb-Free; PartNumber: LP3947ISDX-51/NOPB; Manufacturer: National Semiconductor; PackageTopMarking: NS*UZXYTT*L00062B; PowerWise: Y; CompType: MiscPower; DatasheetVersion: Jul-2006; PackageVersion: revA, Jul-2004; PackageReference: SDA14B; PackageDescription: LLP, Plastic, Dual, 4 x 4 x 0.8mm Body, 14 Lead, 0.5mm Pitch, No Pullback; RoHS: Y; PinCount: 14; High-Reliability: Y; ComponentLink1Description: Manufacturer URL; ComponentLink1URL: http://www.national.com/; ComponentLink2Description: LP3947 Datasheet; ComponentLink2URL: http://www.national.com/ds/LP/LP3947.pdf; ComponentLink3Description: LP3947 Web Page; ComponentLink3URL: http://www.national.com/pf/LP/LP3947.html; ComponentLink4Description: SDA14B Package Page; ComponentLink4URL: http://www.national.com/packaging/folders/sda14b.html
footprint SDA14B (SON, 14-Leads, Body 4x4mm, Pitch 0.5mm, NSC Recommended)
pins: 1 EN (in), 2 SCL (in), 3 SDA (io), 4 BATT (in), 5 VT (out), 6 VBSENSE (in), 7 MODE (in), 8 DIFF-AMP (out), 9 TS (in), 10 EOC (oc), 11 GND (power), 12 CHG (oc), 13 ISEL (in), 14 CHG-IN (in), 15 DAP (power)

## LP3954RL
designator U?
Advanced Lighting Management Unit, 36-pin Micro SMDXT; PartNumber: LP3954RL; Manufacturer: National Semiconductor; PackageTopMarking: XYTT*I D63B; PowerWise: N; CompType: MiscPower; High-Reliability: Y; DatasheetVersion: Jul-2007; PackageVersion: Aug-2007; PackageReference: RLA36AAA; PackageDescription: Micro SMDxt, 36 Bump (Large), 0.5mm Pitch; RoHS: Y; PinCount: 36; ComponentLink1Description: Manufacturer URL; ComponentLink1URL: http://www.national.com/; ComponentLink2Description: LP3954 Datasheet; ComponentLink2URL: http://www.national.com/ds/LP/LP3954.pdf; ComponentLink3Description: LP3954 Web Page; ComponentLink3URL: http://www.national.com/pf/LP/LP3954.html
footprint RLA36AAA (Micro SMD, 36-Leads, Body 3x3mm, Pitch 0.5mm, NSC Recommended)
pins: A1 VDD2 (power), A2 B2 (out), A3 G2 (out), A4 R2 (out), A5 GND_RGB (power), A6 B1 (out), B1 VDDA (power), B2 IF_SEL (in), B3 SCK/SCL (in), B4 SO (out), B5 IRGB (in), B6 G1 (out), C1 VREF (out), C2 IRT, C3 EN_FLASH (in), C4 SI (in), C5 SS/SDA (io), C6 R1 (out), D1 GNDA (power), D2 ASE (in), D3 VDD1 (power), D4 SYNC_PWM (in), D5 VDDIO (power), D6 FLASH (out), E1 WLED2 (out), E2 WLED4 (out), E3 WLED6 (out), E4 IFLASH, E5 GND (power), E6 FB (in), F1 WLED1 (out), F2 WLED3 (out), F3 WLED5 (out), F4 GND_WLED (power), F5 GND_SW (power), F6 SW (out)

## LP3954RL/NOPB
designator U?
Advanced Lighting Management Unit, 36-pin Micro SMDXT, Pb-Free; PartNumber: LP3954RL/NOPB; Manufacturer: National Semiconductor; PackageTopMarking: XYTT*I D63B; PowerWise: N; CompType: MiscPower; High-Reliability: Y; DatasheetVersion: Jul-2007; PackageVersion: Aug-2007; PackageReference: RLA36AAA; PackageDescription: Micro SMDxt, 36 Bump (Large), 0.5mm Pitch; RoHS: Y; PinCount: 36; ComponentLink1Description: Manufacturer URL; ComponentLink1URL: http://www.national.com/; ComponentLink2Description: LP3954 Datasheet; ComponentLink2URL: http://www.national.com/ds/LP/LP3954.pdf; ComponentLink3Description: LP3954 Web Page; ComponentLink3URL: http://www.national.com/pf/LP/LP3954.html; ComponentLink4Description: RLA36AAA Package Page; ComponentLink4URL: http://www.national.com/packaging/folders/rla36aaa.html
footprint RLA36AAA (Micro SMD, 36-Leads, Body 3x3mm, Pitch 0.5mm, NSC Recommended)
pins: A1 VDD2 (power), A2 B2 (out), A3 G2 (out), A4 R2 (out), A5 GND_RGB (power), A6 B1 (out), B1 VDDA (power), B2 IF_SEL (in), B3 SCK/SCL (in), B4 SO (out), B5 IRGB (in), B6 G1 (out), C1 VREF (out), C2 IRT, C3 EN_FLASH (in), C4 SI (in), C5 SS/SDA (io), C6 R1 (out), D1 GNDA (power), D2 ASE (in), D3 VDD1 (power), D4 SYNC_PWM (in), D5 VDDIO (power), D6 FLASH (out), E1 WLED2 (out), E2 WLED4 (out), E3 WLED6 (out), E4 IFLASH, E5 GND (power), E6 FB (in), F1 WLED1 (out), F2 WLED3 (out), F3 WLED5 (out), F4 GND_WLED (power), F5 GND_SW (power), F6 SW (out)

## LP3954RLX/NOPB
designator U?
Advanced Lighting Management Unit, 36-pin Micro SMDXT, Pb-Free; PartNumber: LP3954RLX/NOPB; Manufacturer: National Semiconductor; PackageTopMarking: XYTT*I D63B; PowerWise: N; CompType: MiscPower; High-Reliability: Y; DatasheetVersion: Jul-2007; PackageVersion: Aug-2007; PackageReference: RLA36AAA; PackageDescription: Micro SMDxt, 36 Bump (Large), 0.5mm Pitch; RoHS: Y; PinCount: 36; ComponentLink1Description: Manufacturer URL; ComponentLink1URL: http://www.national.com/; ComponentLink2Description: LP3954 Datasheet; ComponentLink2URL: http://www.national.com/ds/LP/LP3954.pdf; ComponentLink3Description: LP3954 Web Page; ComponentLink3URL: http://www.national.com/pf/LP/LP3954.html; ComponentLink4Description: RLA36AAA Package Page; ComponentLink4URL: http://www.national.com/packaging/folders/rla36aaa.html
footprint RLA36AAA (Micro SMD, 36-Leads, Body 3x3mm, Pitch 0.5mm, NSC Recommended)
pins: A1 VDD2 (power), A2 B2 (out), A3 G2 (out), A4 R2 (out), A5 GND_RGB (power), A6 B1 (out), B1 VDDA (power), B2 IF_SEL (in), B3 SCK/SCL (in), B4 SO (out), B5 IRGB (in), B6 G1 (out), C1 VREF (out), C2 IRT, C3 EN_FLASH (in), C4 SI (in), C5 SS/SDA (io), C6 R1 (out), D1 GNDA (power), D2 ASE (in), D3 VDD1 (power), D4 SYNC_PWM (in), D5 VDDIO (power), D6 FLASH (out), E1 WLED2 (out), E2 WLED4 (out), E3 WLED6 (out), E4 IFLASH, E5 GND (power), E6 FB (in), F1 WLED1 (out), F2 WLED3 (out), F3 WLED5 (out), F4 GND_WLED (power), F5 GND_SW (power), F6 SW (out)

## LP3954TL
designator U?
Advanced Lighting Management Unit, 36-pin Micro SMD; PartNumber: LP3954TL; Manufacturer: National Semiconductor; PackageTopMarking: XYTT*I D49B; PowerWise: Y; CompType: MiscPower; DatasheetVersion: Jul-2007; PackageVersion: revC, Dec-2003; PackageReference: TLA36AAA; PackageDescription: Thin Micro SMD, 36 Bump (Large), 0.5mm Pitch; RoHS: Y; PinCount: 36; High-Reliability: Y; Code_JEDEC: MO-211-DK; ComponentLink1Description: Manufacturer URL; ComponentLink1URL: http://www.national.com/; ComponentLink2Description: LP3954 Datasheet; ComponentLink2URL: http://www.national.com/ds/LP/LP3954.pdf; ComponentLink3Description: LP3954 Web Page; ComponentLink3URL: http://www.national.com/pf/LP/LP3954.html; ComponentLink4Description: TLA36AAA Package Page; ComponentLink4URL: http://www.national.com/packaging/folders/tla36aaa.html
footprint TLA36AAA (Micro SMD, 36-Leads, Body 3x3mm, Pitch 0.5mm, NSC Recommended)
pins: A1 VDD2 (power), A2 B2 (out), A3 G2 (out), A4 R2 (out), A5 GND_RGB (power), A6 B1 (out), B1 VDDA (power), B2 IF_SEL (in), B3 SCK/SCL (in), B4 SO (out), B5 IRGB (in), B6 G1 (out), C1 VREF (out), C2 IRT, C3 EN_FLASH (in), C4 SI (in), C5 SS/SDA (io), C6 R1 (out), D1 GNDA (power), D2 ASE (in), D3 VDD1 (power), D4 SYNC_PWM (in), D5 VDDIO (power), D6 FLASH (out), E1 WLED2 (out), E2 WLED4 (out), E3 WLED6 (out), E4 IFLASH, E5 GND (power), E6 FB (in), F1 WLED1 (out), F2 WLED3 (out), F3 WLED5 (out), F4 GND_WLED (power), F5 GND_SW (power), F6 SW (out)

## LP3954TL/NOPB
designator U?
Advanced Lighting Management Unit, 36-pin Micro SMD, Pb-Free; PartNumber: LP3954TL/NOPB; Manufacturer: National Semiconductor; PackageTopMarking: XYTT*I D49B; PowerWise: Y; CompType: MiscPower; DatasheetVersion: Jul-2007; PackageVersion: revC, Dec-2003; PackageReference: TLA36AAA; PackageDescription: Thin Micro SMD, 36 Bump (Large), 0.5mm Pitch; RoHS: Y; PinCount: 36; High-Reliability: Y; Code_JEDEC: MO-211-DK; ComponentLink1Description: Manufacturer URL; ComponentLink1URL: http://www.national.com/; ComponentLink2Description: LP3954 Datasheet; ComponentLink2URL: http://www.national.com/ds/LP/LP3954.pdf; ComponentLink3Description: LP3954 Web Page; ComponentLink3URL: http://www.national.com/pf/LP/LP3954.html; ComponentLink4Description: TLA36AAA Package Page; ComponentLink4URL: http://www.national.com/packaging/folders/tla36aaa.html
footprint TLA36AAA (Micro SMD, 36-Leads, Body 3x3mm, Pitch 0.5mm, NSC Recommended)
pins: A1 VDD2 (power), A2 B2 (out), A3 G2 (out), A4 R2 (out), A5 GND_RGB (power), A6 B1 (out), B1 VDDA (power), B2 IF_SEL (in), B3 SCK/SCL (in), B4 SO (out), B5 IRGB (in), B6 G1 (out), C1 VREF (out), C2 IRT, C3 EN_FLASH (in), C4 SI (in), C5 SS/SDA (io), C6 R1 (out), D1 GNDA (power), D2 ASE (in), D3 VDD1 (power), D4 SYNC_PWM (in), D5 VDDIO (power), D6 FLASH (out), E1 WLED2 (out), E2 WLED4 (out), E3 WLED6 (out), E4 IFLASH, E5 GND (power), E6 FB (in), F1 WLED1 (out), F2 WLED3 (out), F3 WLED5 (out), F4 GND_WLED (power), F5 GND_SW (power), F6 SW (out)

## LP3954TLX/NOPB
designator U?
Advanced Lighting Management Unit, 36-pin Micro SMD, Pb-Free; PartNumber: LP3954TLX/NOPB; Manufacturer: National Semiconductor; PackageTopMarking: XYTT*I D49B; PowerWise: Y; CompType: MiscPower; DatasheetVersion: Jul-2007; PackageVersion: revC, Dec-2003; PackageReference: TLA36AAA; PackageDescription: Thin Micro SMD, 36 Bump (Large), 0.5mm Pitch; RoHS: Y; PinCount: 36; High-Reliability: Y; Code_JEDEC: MO-211-DK; ComponentLink1Description: Manufacturer URL; ComponentLink1URL: http://www.national.com/; ComponentLink2Description: LP3954 Datasheet; ComponentLink2URL: http://www.national.com/ds/LP/LP3954.pdf; ComponentLink3Description: LP3954 Web Page; ComponentLink3URL: http://www.national.com/pf/LP/LP3954.html; ComponentLink4Description: TLA36AAA Package Page; ComponentLink4URL: http://www.national.com/packaging/folders/tla36aaa.html
footprint TLA36AAA (Micro SMD, 36-Leads, Body 3x3mm, Pitch 0.5mm, NSC Recommended)
pins: A1 VDD2 (power), A2 B2 (out), A3 G2 (out), A4 R2 (out), A5 GND_RGB (power), A6 B1 (out), B1 VDDA (power), B2 IF_SEL (in), B3 SCK/SCL (in), B4 SO (out), B5 IRGB (in), B6 G1 (out), C1 VREF (out), C2 IRT, C3 EN_FLASH (in), C4 SI (in), C5 SS/SDA (io), C6 R1 (out), D1 GNDA (power), D2 ASE (in), D3 VDD1 (power), D4 SYNC_PWM (in), D5 VDDIO (power), D6 FLASH (out), E1 WLED2 (out), E2 WLED4 (out), E3 WLED6 (out), E4 IFLASH, E5 GND (power), E6 FB (in), F1 WLED1 (out), F2 WLED3 (out), F3 WLED5 (out), F4 GND_WLED (power), F5 GND_SW (power), F6 SW (out)

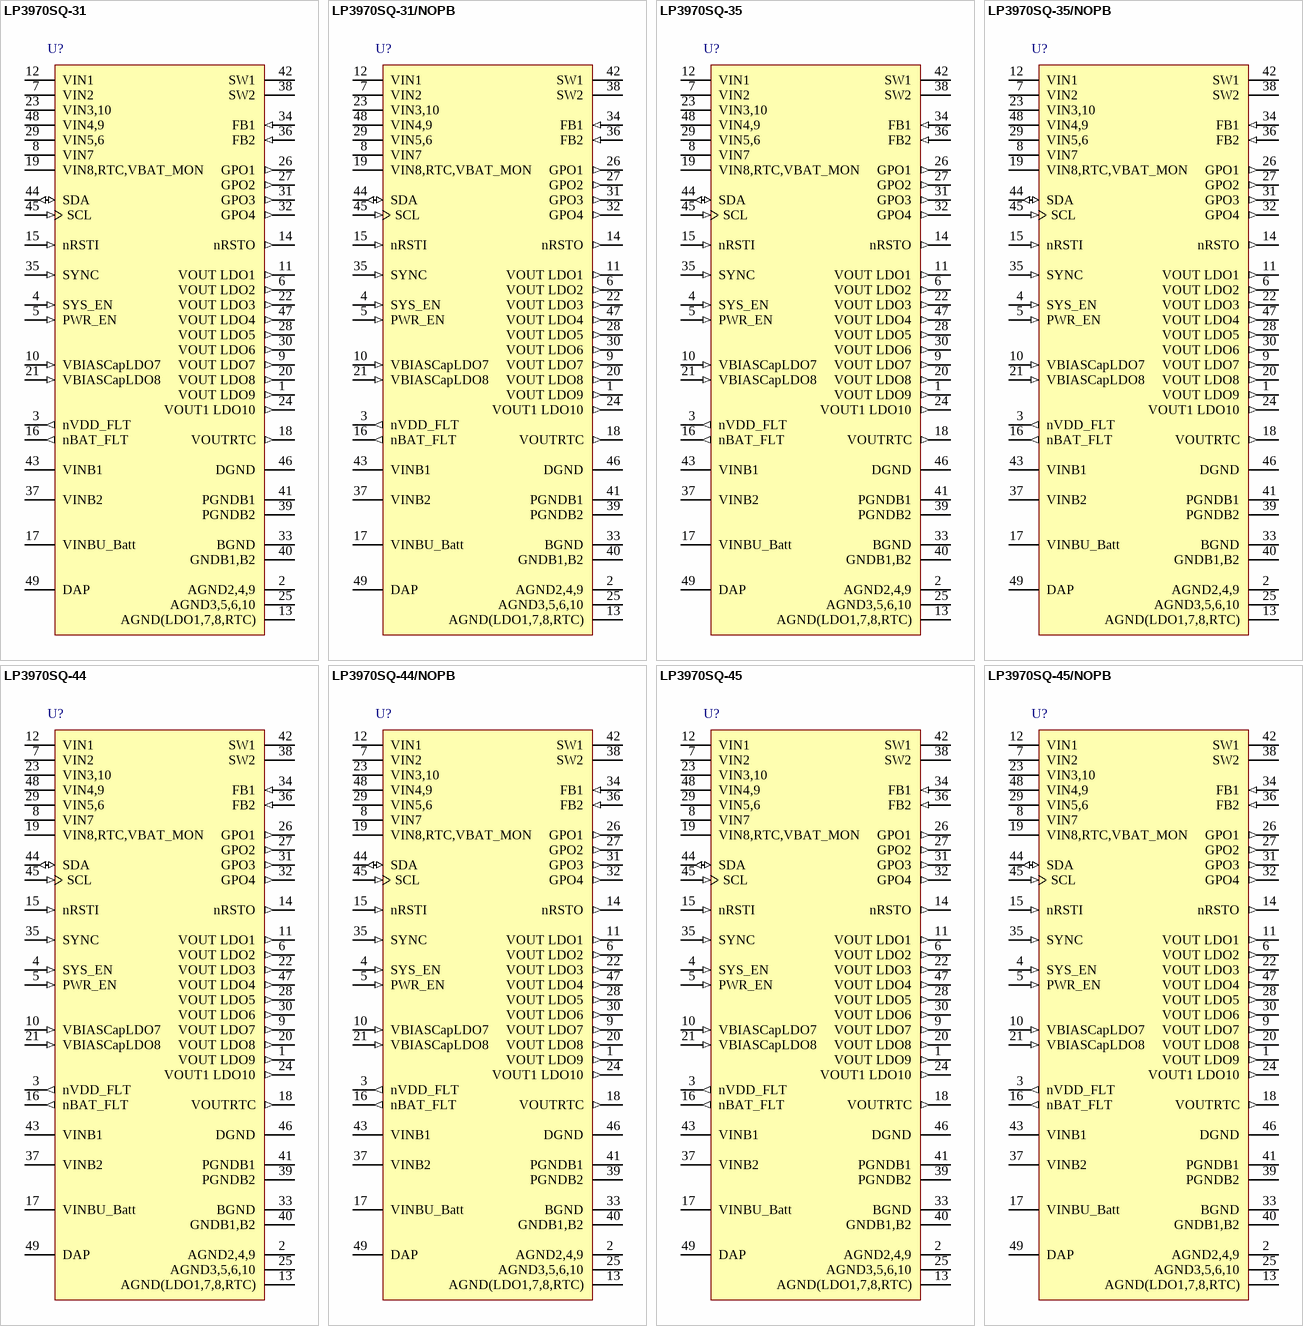
[diagram p46: symbols LP3970SQ-31 to LP3970SQ-45/NOPB]

## LP3970SQ-31
designator U?
Power Management Unit for Advanced Application Processor, 48-pin LLP; PartNumber: LP3970SQ-31; Manufacturer: National Semiconductor; PackageTopMarking: NS*UZXYTTE#*3970-31; PowerWise: Y; CompType: MiscPower; DatasheetVersion: Aug-2007; PackageVersion: revB, May-2009; PackageReference: SQA48A; PackageDescription: LLP, Plastic, Quad, 7 x 7 x 0.8mm Body, 48 Lead, 0.5mm Pitch, No Pullback; RoHS: N; PinCount: 48; High-Reliability: Y; Code_JEDEC: MO-220-WKKD-2; ComponentLink1Description: Manufacturer URL; ComponentLink1URL: http://www.national.com/; ComponentLink2Description: LP3970 Datasheet; ComponentLink2URL: http://www.national.com/ds/LP/LP3970.pdf; ComponentLink3Description: LP3970 Web Page; ComponentLink3URL: http://www.national.com/pf/LP/LP3970.html; ComponentLink4Description: SQA48A Package Page; ComponentLink4URL: http://www.national.com/packaging/folders/sqa48a.html
footprint SQA48A (QFN, 48-Leads, Body 7x7mm, Pitch 0.5mm, Thermal Pad 5.2x5.2mm, NSC Recommended)
pins: 1 VOUT LDO9 (out), 2 AGND2,4,9 (power), 3 nVDD_FLT (out), 4 SYS_EN (in), 5 PWR_EN (in), 6 VOUT LDO2 (out), 7 VIN2 (power), 8 VIN7 (power), 9 VOUT LDO7 (out), 10 VBIASCapLDO7 (in), 11 VOUT LDO1 (out), 12 VIN1 (power), 13 AGND(LDO1,7,8,RTC) (power), 14 nRSTO (out), 15 nRSTI (in), 16 nBAT_FLT (out), 17 VINBU_Batt (power), 18 VOUTRTC (out), 19 VIN8,RTC,VBAT_MON (power), 20 VOUT LDO8 (out), 21 VBIASCapLDO8 (in), 22 VOUT LDO3 (out), 23 VIN3,10 (power), 24 VOUT1 LDO10 (out), 25 AGND3,5,6,10 (power), 26 GPO1 (out), 27 GPO2 (out), 28 VOUT LDO5 (out), 29 VIN5,6 (power), 30 VOUT LDO6 (out), 31 GPO3 (out), 32 GPO4 (out), 33 BGND (power), 34 FB1 (in), 35 SYNC (in), 36 FB2 (in), 37 VINB2 (power), 38 SW2 (power), 39 PGNDB2 (power), 40 GNDB1,B2 (power), 41 PGNDB1 (power), 42 SW1 (power), 43 VINB1 (power), 44 SDA (io), 45 SCL (in), 46 DGND (power), 47 VOUT LDO4 (out), 48 VIN4,9 (power), 49 DAP (power)

## LP3970SQ-31/NOPB
designator U?
Power Management Unit for Advanced Application Processors, 48-pin LLP, Pb-Free; PartNumber: LP3970SQ-31/NOPB; Manufacturer: National Semiconductor; PackageTopMarking: NS*UZXYTTE#*3970-31; PowerWise: Y; CompType: MiscPower; DatasheetVersion: Aug-2007; PackageVersion: revB, May-2009; PackageReference: SQA48A; PackageDescription: LLP, Plastic, Quad, 7 x 7 x 0.8mm Body, 48 Lead, 0.5mm Pitch, No Pullback; RoHS: Y; PinCount: 48; High-Reliability: Y; Code_JEDEC: MO-220-WKKD-2; ComponentLink1Description: Manufacturer URL; ComponentLink1URL: http://www.national.com/; ComponentLink2Description: LP3970 Datasheet; ComponentLink2URL: http://www.national.com/ds/LP/LP3970.pdf; ComponentLink3Description: LP3970 Web Page; ComponentLink3URL: http://www.national.com/pf/LP/LP3970.html; ComponentLink4Description: SQA48A Package Page; ComponentLink4URL: http://www.national.com/packaging/folders/sqa48a.html
footprint SQA48A (QFN, 48-Leads, Body 7x7mm, Pitch 0.5mm, Thermal Pad 5.2x5.2mm, NSC Recommended)
pins: 1 VOUT LDO9 (out), 2 AGND2,4,9 (power), 3 nVDD_FLT (out), 4 SYS_EN (in), 5 PWR_EN (in), 6 VOUT LDO2 (out), 7 VIN2 (power), 8 VIN7 (power), 9 VOUT LDO7 (out), 10 VBIASCapLDO7 (in), 11 VOUT LDO1 (out), 12 VIN1 (power), 13 AGND(LDO1,7,8,RTC) (power), 14 nRSTO (out), 15 nRSTI (in), 16 nBAT_FLT (out), 17 VINBU_Batt (power), 18 VOUTRTC (out), 19 VIN8,RTC,VBAT_MON (power), 20 VOUT LDO8 (out), 21 VBIASCapLDO8 (in), 22 VOUT LDO3 (out), 23 VIN3,10 (power), 24 VOUT1 LDO10 (out), 25 AGND3,5,6,10 (power), 26 GPO1 (out), 27 GPO2 (out), 28 VOUT LDO5 (out), 29 VIN5,6 (power), 30 VOUT LDO6 (out), 31 GPO3 (out), 32 GPO4 (out), 33 BGND (power), 34 FB1 (in), 35 SYNC (in), 36 FB2 (in), 37 VINB2 (power), 38 SW2 (power), 39 PGNDB2 (power), 40 GNDB1,B2 (power), 41 PGNDB1 (power), 42 SW1 (power), 43 VINB1 (power), 44 SDA (io), 45 SCL (in), 46 DGND (power), 47 VOUT LDO4 (out), 48 VIN4,9 (power), 49 DAP (power)

## LP3970SQ-35
designator U?
Power Management Unit for Advanced Application Processor, 48-pin LLP; PartNumber: LP3970SQ-35; Manufacturer: National Semiconductor; PackageTopMarking: NS*UZXYTTE#*3970-35; PowerWise: Y; CompType: MiscPower; DatasheetVersion: Aug-2007; PackageVersion: revB, May-2009; PackageReference: SQA48A; PackageDescription: LLP, Plastic, Quad, 7 x 7 x 0.8mm Body, 48 Lead, 0.5mm Pitch, No Pullback; RoHS: N; PinCount: 48; High-Reliability: Y; Code_JEDEC: MO-220-WKKD-2; ComponentLink1Description: Manufacturer URL; ComponentLink1URL: http://www.national.com/; ComponentLink2Description: LP3970 Datasheet; ComponentLink2URL: http://www.national.com/ds/LP/LP3970.pdf; ComponentLink3Description: LP3970 Web Page; ComponentLink3URL: http://www.national.com/pf/LP/LP3970.html; ComponentLink4Description: SQA48A Package Page; ComponentLink4URL: http://www.national.com/packaging/folders/sqa48a.html
footprint SQA48A (QFN, 48-Leads, Body 7x7mm, Pitch 0.5mm, Thermal Pad 5.2x5.2mm, NSC Recommended)
pins: 1 VOUT LDO9 (out), 2 AGND2,4,9 (power), 3 nVDD_FLT (out), 4 SYS_EN (in), 5 PWR_EN (in), 6 VOUT LDO2 (out), 7 VIN2 (power), 8 VIN7 (power), 9 VOUT LDO7 (out), 10 VBIASCapLDO7 (in), 11 VOUT LDO1 (out), 12 VIN1 (power), 13 AGND(LDO1,7,8,RTC) (power), 14 nRSTO (out), 15 nRSTI (in), 16 nBAT_FLT (out), 17 VINBU_Batt (power), 18 VOUTRTC (out), 19 VIN8,RTC,VBAT_MON (power), 20 VOUT LDO8 (out), 21 VBIASCapLDO8 (in), 22 VOUT LDO3 (out), 23 VIN3,10 (power), 24 VOUT1 LDO10 (out), 25 AGND3,5,6,10 (power), 26 GPO1 (out), 27 GPO2 (out), 28 VOUT LDO5 (out), 29 VIN5,6 (power), 30 VOUT LDO6 (out), 31 GPO3 (out), 32 GPO4 (out), 33 BGND (power), 34 FB1 (in), 35 SYNC (in), 36 FB2 (in), 37 VINB2 (power), 38 SW2 (power), 39 PGNDB2 (power), 40 GNDB1,B2 (power), 41 PGNDB1 (power), 42 SW1 (power), 43 VINB1 (power), 44 SDA (io), 45 SCL (in), 46 DGND (power), 47 VOUT LDO4 (out), 48 VIN4,9 (power), 49 DAP (power)

## LP3970SQ-35/NOPB
designator U?
Power Management Unit for Advanced Application Processors, 48-pin LLP, Pb-Free; PartNumber: LP3970SQ-35/NOPB; Manufacturer: National Semiconductor; PackageTopMarking: NS*UZXYTTE#*3970-35; PowerWise: Y; CompType: MiscPower; DatasheetVersion: Aug-2007; PackageVersion: revB, May-2009; PackageReference: SQA48A; PackageDescription: LLP, Plastic, Quad, 7 x 7 x 0.8mm Body, 48 Lead, 0.5mm Pitch, No Pullback; RoHS: Y; PinCount: 48; High-Reliability: Y; Code_JEDEC: MO-220-WKKD-2; ComponentLink1Description: Manufacturer URL; ComponentLink1URL: http://www.national.com/; ComponentLink2Description: LP3970 Datasheet; ComponentLink2URL: http://www.national.com/ds/LP/LP3970.pdf; ComponentLink3Description: LP3970 Web Page; ComponentLink3URL: http://www.national.com/pf/LP/LP3970.html; ComponentLink4Description: SQA48A Package Page; ComponentLink4URL: http://www.national.com/packaging/folders/sqa48a.html
footprint SQA48A (QFN, 48-Leads, Body 7x7mm, Pitch 0.5mm, Thermal Pad 5.2x5.2mm, NSC Recommended)
pins: 1 VOUT LDO9 (out), 2 AGND2,4,9 (power), 3 nVDD_FLT (out), 4 SYS_EN (in), 5 PWR_EN (in), 6 VOUT LDO2 (out), 7 VIN2 (power), 8 VIN7 (power), 9 VOUT LDO7 (out), 10 VBIASCapLDO7 (in), 11 VOUT LDO1 (out), 12 VIN1 (power), 13 AGND(LDO1,7,8,RTC) (power), 14 nRSTO (out), 15 nRSTI (in), 16 nBAT_FLT (out), 17 VINBU_Batt (power), 18 VOUTRTC (out), 19 VIN8,RTC,VBAT_MON (power), 20 VOUT LDO8 (out), 21 VBIASCapLDO8 (in), 22 VOUT LDO3 (out), 23 VIN3,10 (power), 24 VOUT1 LDO10 (out), 25 AGND3,5,6,10 (power), 26 GPO1 (out), 27 GPO2 (out), 28 VOUT LDO5 (out), 29 VIN5,6 (power), 30 VOUT LDO6 (out), 31 GPO3 (out), 32 GPO4 (out), 33 BGND (power), 34 FB1 (in), 35 SYNC (in), 36 FB2 (in), 37 VINB2 (power), 38 SW2 (power), 39 PGNDB2 (power), 40 GNDB1,B2 (power), 41 PGNDB1 (power), 42 SW1 (power), 43 VINB1 (power), 44 SDA (io), 45 SCL (in), 46 DGND (power), 47 VOUT LDO4 (out), 48 VIN4,9 (power), 49 DAP (power)

## LP3970SQ-44
designator U?
Power Management Unit for Advanced Application Processor, 48-pin LLP; PartNumber: LP3970SQ-44; Manufacturer: National Semiconductor; PackageTopMarking: NS*UZXYTTE#*3970-44; PowerWise: Y; CompType: MiscPower; DatasheetVersion: Aug-2007; PackageVersion: revB, May-2009; PackageReference: SQA48A; PackageDescription: LLP, Plastic, Quad, 7 x 7 x 0.8mm Body, 48 Lead, 0.5mm Pitch, No Pullback; RoHS: N; PinCount: 48; High-Reliability: Y; Code_JEDEC: MO-220-WKKD-2; ComponentLink1Description: Manufacturer URL; ComponentLink1URL: http://www.national.com/; ComponentLink2Description: LP3970 Datasheet; ComponentLink2URL: http://www.national.com/ds/LP/LP3970.pdf; ComponentLink3Description: LP3970 Web Page; ComponentLink3URL: http://www.national.com/pf/LP/LP3970.html; ComponentLink4Description: SQA48A Package Page; ComponentLink4URL: http://www.national.com/packaging/folders/sqa48a.html
footprint SQA48A (QFN, 48-Leads, Body 7x7mm, Pitch 0.5mm, Thermal Pad 5.2x5.2mm, NSC Recommended)
pins: 1 VOUT LDO9 (out), 2 AGND2,4,9 (power), 3 nVDD_FLT (out), 4 SYS_EN (in), 5 PWR_EN (in), 6 VOUT LDO2 (out), 7 VIN2 (power), 8 VIN7 (power), 9 VOUT LDO7 (out), 10 VBIASCapLDO7 (in), 11 VOUT LDO1 (out), 12 VIN1 (power), 13 AGND(LDO1,7,8,RTC) (power), 14 nRSTO (out), 15 nRSTI (in), 16 nBAT_FLT (out), 17 VINBU_Batt (power), 18 VOUTRTC (out), 19 VIN8,RTC,VBAT_MON (power), 20 VOUT LDO8 (out), 21 VBIASCapLDO8 (in), 22 VOUT LDO3 (out), 23 VIN3,10 (power), 24 VOUT1 LDO10 (out), 25 AGND3,5,6,10 (power), 26 GPO1 (out), 27 GPO2 (out), 28 VOUT LDO5 (out), 29 VIN5,6 (power), 30 VOUT LDO6 (out), 31 GPO3 (out), 32 GPO4 (out), 33 BGND (power), 34 FB1 (in), 35 SYNC (in), 36 FB2 (in), 37 VINB2 (power), 38 SW2 (power), 39 PGNDB2 (power), 40 GNDB1,B2 (power), 41 PGNDB1 (power), 42 SW1 (power), 43 VINB1 (power), 44 SDA (io), 45 SCL (in), 46 DGND (power), 47 VOUT LDO4 (out), 48 VIN4,9 (power), 49 DAP (power)

## LP3970SQ-44/NOPB
designator U?
Power Management Unit for Advanced Application Processors, 48-pin LLP, Pb-Free; PartNumber: LP3970SQ-44/NOPB; Manufacturer: National Semiconductor; PackageTopMarking: NS*UZXYTTE#*3970-44; PowerWise: Y; CompType: MiscPower; DatasheetVersion: Aug-2007; PackageVersion: revB, May-2009; PackageReference: SQA48A; PackageDescription: LLP, Plastic, Quad, 7 x 7 x 0.8mm Body, 48 Lead, 0.5mm Pitch, No Pullback; RoHS: Y; PinCount: 48; High-Reliability: Y; Code_JEDEC: MO-220-WKKD-2; ComponentLink1Description: Manufacturer URL; ComponentLink1URL: http://www.national.com/; ComponentLink2Description: LP3970 Datasheet; ComponentLink2URL: http://www.national.com/ds/LP/LP3970.pdf; ComponentLink3Description: LP3970 Web Page; ComponentLink3URL: http://www.national.com/pf/LP/LP3970.html; ComponentLink4Description: SQA48A Package Page; ComponentLink4URL: http://www.national.com/packaging/folders/sqa48a.html
footprint SQA48A (QFN, 48-Leads, Body 7x7mm, Pitch 0.5mm, Thermal Pad 5.2x5.2mm, NSC Recommended)
pins: 1 VOUT LDO9 (out), 2 AGND2,4,9 (power), 3 nVDD_FLT (out), 4 SYS_EN (in), 5 PWR_EN (in), 6 VOUT LDO2 (out), 7 VIN2 (power), 8 VIN7 (power), 9 VOUT LDO7 (out), 10 VBIASCapLDO7 (in), 11 VOUT LDO1 (out), 12 VIN1 (power), 13 AGND(LDO1,7,8,RTC) (power), 14 nRSTO (out), 15 nRSTI (in), 16 nBAT_FLT (out), 17 VINBU_Batt (power), 18 VOUTRTC (out), 19 VIN8,RTC,VBAT_MON (power), 20 VOUT LDO8 (out), 21 VBIASCapLDO8 (in), 22 VOUT LDO3 (out), 23 VIN3,10 (power), 24 VOUT1 LDO10 (out), 25 AGND3,5,6,10 (power), 26 GPO1 (out), 27 GPO2 (out), 28 VOUT LDO5 (out), 29 VIN5,6 (power), 30 VOUT LDO6 (out), 31 GPO3 (out), 32 GPO4 (out), 33 BGND (power), 34 FB1 (in), 35 SYNC (in), 36 FB2 (in), 37 VINB2 (power), 38 SW2 (power), 39 PGNDB2 (power), 40 GNDB1,B2 (power), 41 PGNDB1 (power), 42 SW1 (power), 43 VINB1 (power), 44 SDA (io), 45 SCL (in), 46 DGND (power), 47 VOUT LDO4 (out), 48 VIN4,9 (power), 49 DAP (power)

## LP3970SQ-45
designator U?
Power Management Unit for Advanced Application Processor, 48-pin LLP; PartNumber: LP3970SQ-45; Manufacturer: National Semiconductor; PackageTopMarking: NS*UZXYTTE#*3970-45; PowerWise: Y; CompType: MiscPower; DatasheetVersion: Aug-2007; PackageVersion: revB, May-2009; PackageReference: SQA48A; PackageDescription: LLP, Plastic, Quad, 7 x 7 x 0.8mm Body, 48 Lead, 0.5mm Pitch, No Pullback; RoHS: N; PinCount: 48; High-Reliability: Y; Code_JEDEC: MO-220-WKKD-2; ComponentLink1Description: Manufacturer URL; ComponentLink1URL: http://www.national.com/; ComponentLink2Description: LP3970 Datasheet; ComponentLink2URL: http://www.national.com/ds/LP/LP3970.pdf; ComponentLink3Description: LP3970 Web Page; ComponentLink3URL: http://www.national.com/pf/LP/LP3970.html; ComponentLink4Description: SQA48A Package Page; ComponentLink4URL: http://www.national.com/packaging/folders/sqa48a.html
footprint SQA48A (QFN, 48-Leads, Body 7x7mm, Pitch 0.5mm, Thermal Pad 5.2x5.2mm, NSC Recommended)
pins: 1 VOUT LDO9 (out), 2 AGND2,4,9 (power), 3 nVDD_FLT (out), 4 SYS_EN (in), 5 PWR_EN (in), 6 VOUT LDO2 (out), 7 VIN2 (power), 8 VIN7 (power), 9 VOUT LDO7 (out), 10 VBIASCapLDO7 (in), 11 VOUT LDO1 (out), 12 VIN1 (power), 13 AGND(LDO1,7,8,RTC) (power), 14 nRSTO (out), 15 nRSTI (in), 16 nBAT_FLT (out), 17 VINBU_Batt (power), 18 VOUTRTC (out), 19 VIN8,RTC,VBAT_MON (power), 20 VOUT LDO8 (out), 21 VBIASCapLDO8 (in), 22 VOUT LDO3 (out), 23 VIN3,10 (power), 24 VOUT1 LDO10 (out), 25 AGND3,5,6,10 (power), 26 GPO1 (out), 27 GPO2 (out), 28 VOUT LDO5 (out), 29 VIN5,6 (power), 30 VOUT LDO6 (out), 31 GPO3 (out), 32 GPO4 (out), 33 BGND (power), 34 FB1 (in), 35 SYNC (in), 36 FB2 (in), 37 VINB2 (power), 38 SW2 (power), 39 PGNDB2 (power), 40 GNDB1,B2 (power), 41 PGNDB1 (power), 42 SW1 (power), 43 VINB1 (power), 44 SDA (io), 45 SCL (in), 46 DGND (power), 47 VOUT LDO4 (out), 48 VIN4,9 (power), 49 DAP (power)

## LP3970SQ-45/NOPB
designator U?
Power Management Unit for Advanced Application Processors, 48-pin LLP, Pb-Free; PartNumber: LP3970SQ-45/NOPB; Manufacturer: National Semiconductor; PackageTopMarking: NS*UZXYTTE#*3970-45; PowerWise: Y; CompType: MiscPower; DatasheetVersion: Aug-2007; PackageVersion: revB, May-2009; PackageReference: SQA48A; PackageDescription: LLP, Plastic, Quad, 7 x 7 x 0.8mm Body, 48 Lead, 0.5mm Pitch, No Pullback; RoHS: Y; PinCount: 48; High-Reliability: Y; Code_JEDEC: MO-220-WKKD-2; ComponentLink1Description: Manufacturer URL; ComponentLink1URL: http://www.national.com/; ComponentLink2Description: LP3970 Datasheet; ComponentLink2URL: http://www.national.com/ds/LP/LP3970.pdf; ComponentLink3Description: LP3970 Web Page; ComponentLink3URL: http://www.national.com/pf/LP/LP3970.html; ComponentLink4Description: SQA48A Package Page; ComponentLink4URL: http://www.national.com/packaging/folders/sqa48a.html
footprint SQA48A (QFN, 48-Leads, Body 7x7mm, Pitch 0.5mm, Thermal Pad 5.2x5.2mm, NSC Recommended)
pins: 1 VOUT LDO9 (out), 2 AGND2,4,9 (power), 3 nVDD_FLT (out), 4 SYS_EN (in), 5 PWR_EN (in), 6 VOUT LDO2 (out), 7 VIN2 (power), 8 VIN7 (power), 9 VOUT LDO7 (out), 10 VBIASCapLDO7 (in), 11 VOUT LDO1 (out), 12 VIN1 (power), 13 AGND(LDO1,7,8,RTC) (power), 14 nRSTO (out), 15 nRSTI (in), 16 nBAT_FLT (out), 17 VINBU_Batt (power), 18 VOUTRTC (out), 19 VIN8,RTC,VBAT_MON (power), 20 VOUT LDO8 (out), 21 VBIASCapLDO8 (in), 22 VOUT LDO3 (out), 23 VIN3,10 (power), 24 VOUT1 LDO10 (out), 25 AGND3,5,6,10 (power), 26 GPO1 (out), 27 GPO2 (out), 28 VOUT LDO5 (out), 29 VIN5,6 (power), 30 VOUT LDO6 (out), 31 GPO3 (out), 32 GPO4 (out), 33 BGND (power), 34 FB1 (in), 35 SYNC (in), 36 FB2 (in), 37 VINB2 (power), 38 SW2 (power), 39 PGNDB2 (power), 40 GNDB1,B2 (power), 41 PGNDB1 (power), 42 SW1 (power), 43 VINB1 (power), 44 SDA (io), 45 SCL (in), 46 DGND (power), 47 VOUT LDO4 (out), 48 VIN4,9 (power), 49 DAP (power)

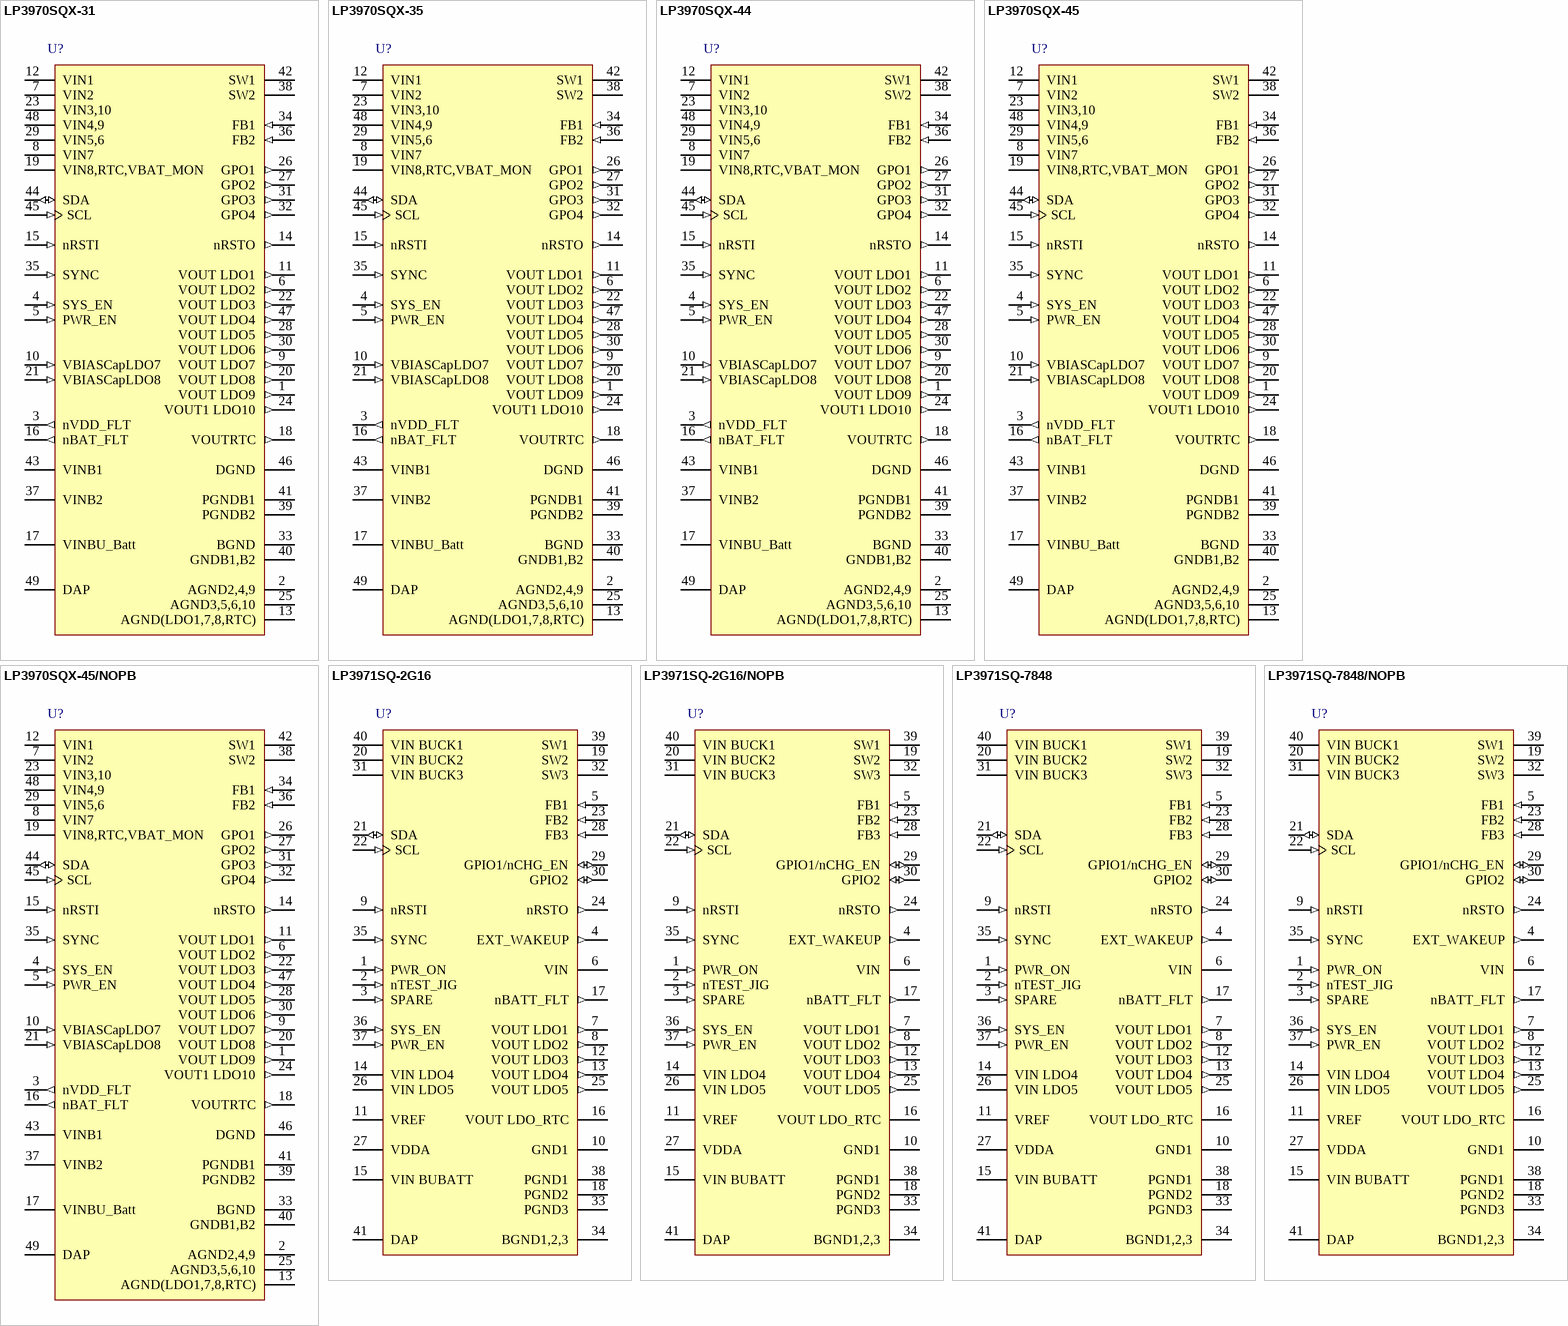
[diagram p47: symbols LP3970SQX-31 to LP3971SQ-7848/NOPB]